# EAGLE library part LP5521 (library Intar_Eagle_Library)
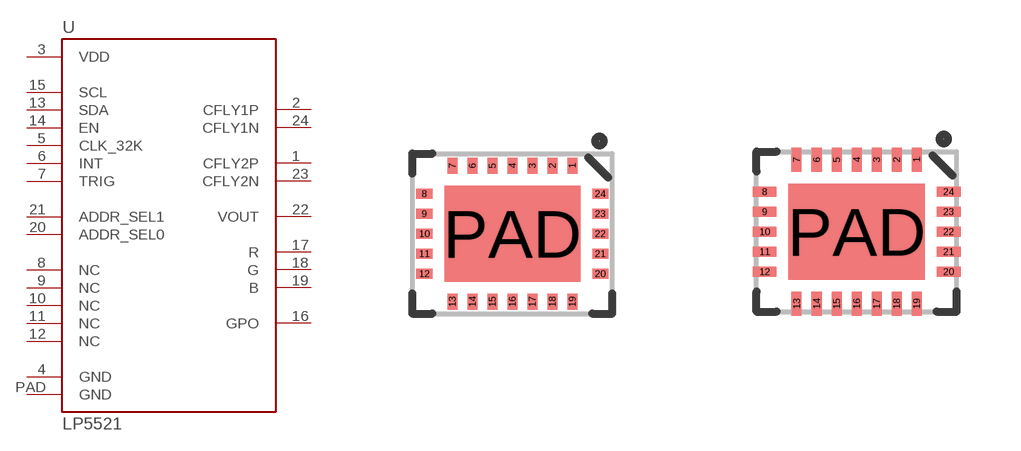
[diagram p0: symbol with the pads of WQFN-24; footprints WQFN-24, WQFN-24_LONG]

Designator prefix U

## LP5521REG  [WQFN-24]
1  CFLY2P
2  CFLY1P
3  VDD
4  GND
5  CLK_32K
6  INT
7  TRIG
8  NC
9  NC
10  NC
11  NC
12  NC
13  SDA
14  EN
15  SCL
16  GPO
17  R
18  G
19  B
20  ADDR_SEL0
21  ADDR_SEL1
22  VOUT
23  CFLY2N
24  CFLY1N
PAD  GND

## LP5521LONG  [WQFN-24_LONG]
Pads as for WQFN-24

## Footprint WQFN-24 (pad centres in mm)
smd 0.25 x 0.4: 1 1.5,1.7; 2 1,1.7; 3 0.5,1.7; 4 0,1.7; 5 -0.5,1.7; 6 -1,1.7; 7 -1.5,1.7; 13 -1.5,-1.7; 14 -1,-1.7; 15 -0.5,-1.7; 16 0,-1.7; 17 0.5,-1.7; 18 1,-1.7; 19 1.5,-1.7
smd 0.4 x 0.25: 8 -2.2,1; 9 -2.2,0.5; 10 -2.2,0; 11 -2.2,-0.5; 12 -2.2,-1; 20 2.2,-1; 21 2.2,-0.5; 22 2.2,0; 23 2.2,0.5; 24 2.2,1
smd 3.4 x 2.4: PAD 0,0

## Footprint WQFN-24_LONG (pad centres in mm)
smd 0.25 x 0.6: 1 1.5,1.8; 2 1,1.8; 3 0.5,1.8; 4 0,1.8; 5 -0.5,1.8; 6 -1,1.8; 7 -1.5,1.8; 13 -1.5,-1.8; 14 -1,-1.8; 15 -0.5,-1.8; 16 0,-1.8; 17 0.5,-1.8; 18 1,-1.8; 19 1.5,-1.8
smd 0.6 x 0.25: 8 -2.3,1; 9 -2.3,0.5; 10 -2.3,0; 11 -2.3,-0.5; 12 -2.3,-1; 20 2.3,-1; 21 2.3,-0.5; 22 2.3,0; 23 2.3,0.5; 24 2.3,1
smd 3.4 x 2.4: PAD 0,0